# EAGLE library part LTC3558 (library seb)
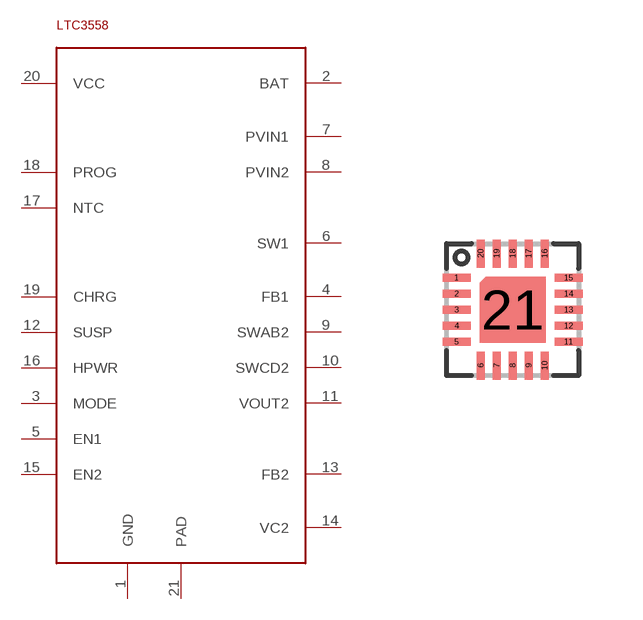
[diagram p5: symbol with the pads of UD-QFN20; footprint UD-QFN20]

Designator prefix -

## LTC3558  [UD-QFN20]
1  GND
2  BAT
3  MODE
4  FB1
5  EN1
6  SW1
7  PVIN1
8  PVIN2
9  SWAB2
10  SWCD2
11  VOUT2
12  SUSP
13  FB2
14  VC2
15  EN2
16  HPWR
17  NTC
18  PROG
19  CHRG
20  VCC
21  PAD

## Footprint UD-QFN20 (pad centres in mm)
smd 0.7 x 0.2: 1 -1.4,0.8; 2 -1.4,0.4; 3 -1.4,0; 4 -1.4,-0.4; 5 -1.4,-0.8; 11 1.4,-0.8; 12 1.4,-0.4; 13 1.4,0; 14 1.4,0.4; 15 1.4,0.8
smd 0.2 x 0.7: 6 -0.8,-1.4; 7 -0.4,-1.4; 8 0,-1.4; 9 0.4,-1.4; 10 0.8,-1.4; 16 0.8,1.4; 17 0.4,1.4; 18 0,1.4; 19 -0.4,1.4; 20 -0.8,1.4
smd 1.5 x 1.5: 21 0,0